# EAGLE library part 162B (library displaytech)
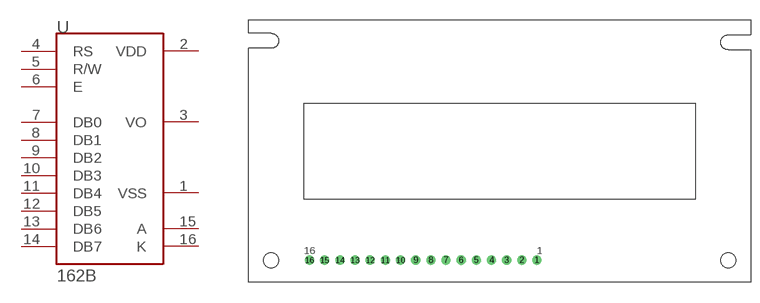
[diagram p2: symbol with the pads of 162B; footprint 162B]

Designator prefix -

## 162B  [162B]
1  VSS  pwr
2  VDD  pwr
3  VO  in
4  RS
5  R/W
6  E
7  DB0
8  DB1
9  DB2
10  DB3
11  DB4
12  DB5
13  DB6
14  DB7
15  A  pwr
16  K  pwr

## Footprint 162B (pad centres in mm)
drill 1.016: 1 38.1,0; 2 35.56,0; 3 33.02,0; 4 30.48,0; 5 27.94,0; 6 25.4,0; 7 22.86,0; 8 20.32,0; 9 17.78,0; 10 15.24,0; 11 12.7,0; 12 10.16,0; 13 7.62,0; 14 5.08,0; 15 2.54,0; 16 0,0